# EAGLE library part FT245RQ (library ftdichip-4)
USB FIFO Controller 4th Generation USB Controller (USB <-> Parallel) - FIFO
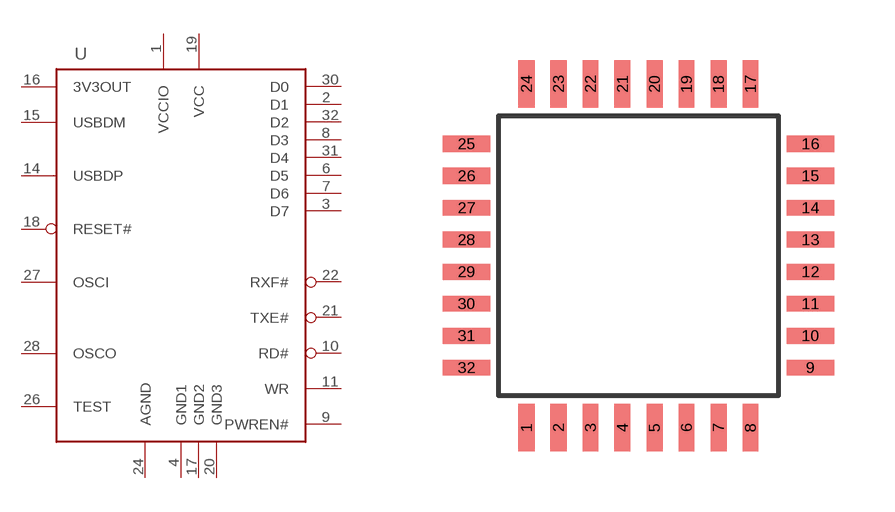
[diagram p6: symbol with the pads of LQFP32; footprint LQFP32]

Designator prefix U

## FT245RQ  [LQFP32]
1  VCCIO  pwr
2  D1  in
3  D7  in
4  GND1  pwr
6  D5  in
7  D6  in
8  D3  in
9  PWREN#
10  RD#
11  WR
14  USBDP
15  USBDM
16  3V3OUT  out
17  GND2  pwr
18  RESET#  in
19  VCC  pwr
20  GND3  pwr
21  TXE#
22  RXF#
24  AGND  pwr
26  TEST  in
27  OSCI  in
28  OSCO  out
30  D0  out
31  D4  out
32  D2  out

## Footprint LQFP32 (pad centres in mm)
LQFP-32 package 7x7 mm case, 0.8 mm lead pitch
smd 0.4 x 1.2: 1 -2.8,-4.3; 2 -2,-4.3; 3 -1.2,-4.3; 4 -0.4,-4.3; 5 0.4,-4.3; 6 1.2,-4.3; 7 2,-4.3; 8 2.8,-4.3; 17 2.8,4.3; 18 2,4.3; 19 1.2,4.3; 20 0.4,4.3; 21 -0.4,4.3; 22 -1.2,4.3; 23 -2,4.3; 24 -2.8,4.3
smd 1.2 x 0.4: 9 4.3,-2.8; 10 4.3,-2; 11 4.3,-1.2; 12 4.3,-0.4; 13 4.3,0.4; 14 4.3,1.2; 15 4.3,2; 16 4.3,2.8; 25 -4.3,2.8; 26 -4.3,2; 27 -4.3,1.2; 28 -4.3,0.4; 29 -4.3,-0.4; 30 -4.3,-1.2; 31 -4.3,-2; 32 -4.3,-2.8